# EAGLE library part FM31278-G (library ramtron-2)
Description The FM3127x is a family of integrated devices that includes the most commonly needed functions for processor-based systems. Major features include nonvolatile memory available in various sizes, real-time clock, low-VDD reset, watchdog timer, nonvolatile event counter, lockable 64-bit serial number area, and general purpose comparator that can be used for an early power-fail (NMI) interrupt or other purpose. The family operates from 4.0 to 5.5V. High Integration Device Replaces Multiple Parts • Serial Nonvolatile Memory • Real-time Clock (RTC) • Low Voltage Reset • Watchdog Timer • Early Power-Fail Warning/NMI • Two 16-bit Event Counters • Serial Number with Write-lock for Security Ferroelectric Nonvolatile RAM • 4Kb, 16Kb, 64Kb, and 256Kb versions • Virtually Unlimited Read/Write Endurance • 38 year Data Retention (+75°C) • NoDelay™ Writes Real-time Clock/Calendar • Backup Current under 1.4 uA • Seconds through Centuries in BCD format • Tracks Leap Years through 2099 • Uses Standard 32.768 kHz Crystal (12.5pF) • Software Calibration • Supports Battery or Capacitor Backup Processor Companion • Active-low Reset Output for V DD and Watchdog • Programmable V DD Reset Trip Point • Manual Reset Filtered and Debounced • Programmable Watchdog Timer • Dual Battery-backed Event Counter Tracks System Intrusions or other Events • Comparator for Early Power-Fail Interrupt • 64-bit Programmable Serial Number with Lock Fast Two-wire Serial Interface • Up to 1 MHz Maximum Bus Frequency • Supports Legacy Timing for 100 kHz & 400 kHz • Device Select Pins for up to 4 Memory Devices • RTC, Supervisor Controlled via 2-wire Interface Easy to Use Configurations • Operates from 4.0 to 5.5V • 14-pin “Green”/RoHS SOIC package (-G) • Low Operating Current • -40°C to +85°C Operation • Underwriters Laboratory (UL) Recognized
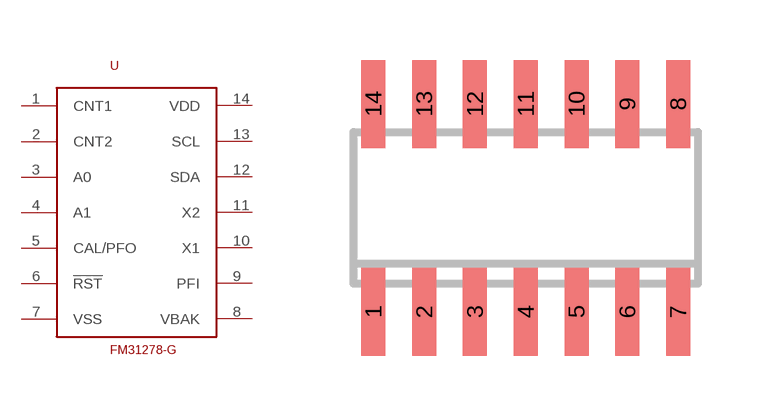
[diagram p6: symbol with the pads of SO14; footprint SO14]

Designator prefix -

## FM31278-G  [SO14]
1  CNT1  in
2  CNT2  in
3  A0  pas
4  A1  pas
5  CAL/PFO  out
6  !RST  in
7  VSS  pwr
8  VBAK  pwr
9  PFI  in
10  X1  oc
11  X2  oc
12  SDA
13  SCL  in
14  VDD  pwr

## Footprint SO14 (pad centres in mm)
SMALL OUTLINE INTEGRATED CIRCUIT body 3.9 mm/JEDEC MS-012AC
smd 0.6 x 2.2: 1 -3.81,-2.6; 2 -2.54,-2.6; 3 -1.27,-2.6; 4 0,-2.6; 5 1.27,-2.6; 6 2.54,-2.6; 7 3.81,-2.6; 8 3.81,2.6; 9 2.54,2.6; 10 1.27,2.6; 11 0,2.6; 12 -1.27,2.6; 13 -2.54,2.6; 14 -3.81,2.6